# Altium schematic symbol library TE.SchLib: 3 symbols
Pins are listed as number, name and electrical type; pins without a type are passive.

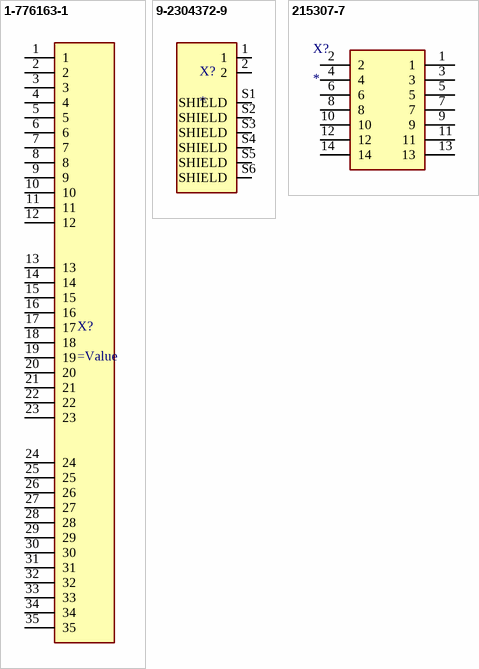
[diagram p0: symbols 1-776163-1 to 215307-7]

## 1-776163-1
designator X?
Conn Rectangular PIN 35 POS 4mm Solder Right Angle Through Hole Gold Plated Black
pins: 1, 2, 3, 4, 5, 6, 7, 8, 9, 10, 11, 12, 13, 14, 15, 16, 17, 18, 19, 20, 21, 22, 23, 24, 25, 26, 27, 28, 29, 30, 31, 32, 33, 34, 35

## 9-2304372-9
designator X?
1-PORT MATENET HDR ASSY 90DEG, COD Z; MP: 9-2304372-9; MF: TE Connectivity; Package: None; Value: *; SnapEDA_Link: https://www.snapeda.com/parts/9-2304372-9/TE%20Connectivity/view-part/1783825/?ref=snap; Price: None; Availability: Unavailable
pins: 1, 2, S1 SHIELD, S2 SHIELD, S3 SHIELD, S4 SHIELD, S5 SHIELD, S6 SHIELD

## 215307-7
designator X?
Connector
footprint 2153077
pins: 1, 2, 3, 4, 5, 6, 7, 8, 9, 10, 11, 12, 13, 14